# Altium footprint library footprints.PcbLib: 26 footprints (part 2 of 2)
Each footprint in its own frame and in the unit in brackets; x right, y up, seen from the top. Pads: shape width x height; smd on the part's side, far side on the other; paste and mask are expansions set on the pad; w line width, h text height; cw(c..) or ccw(c..) is an arc to the next point about the centre after c.
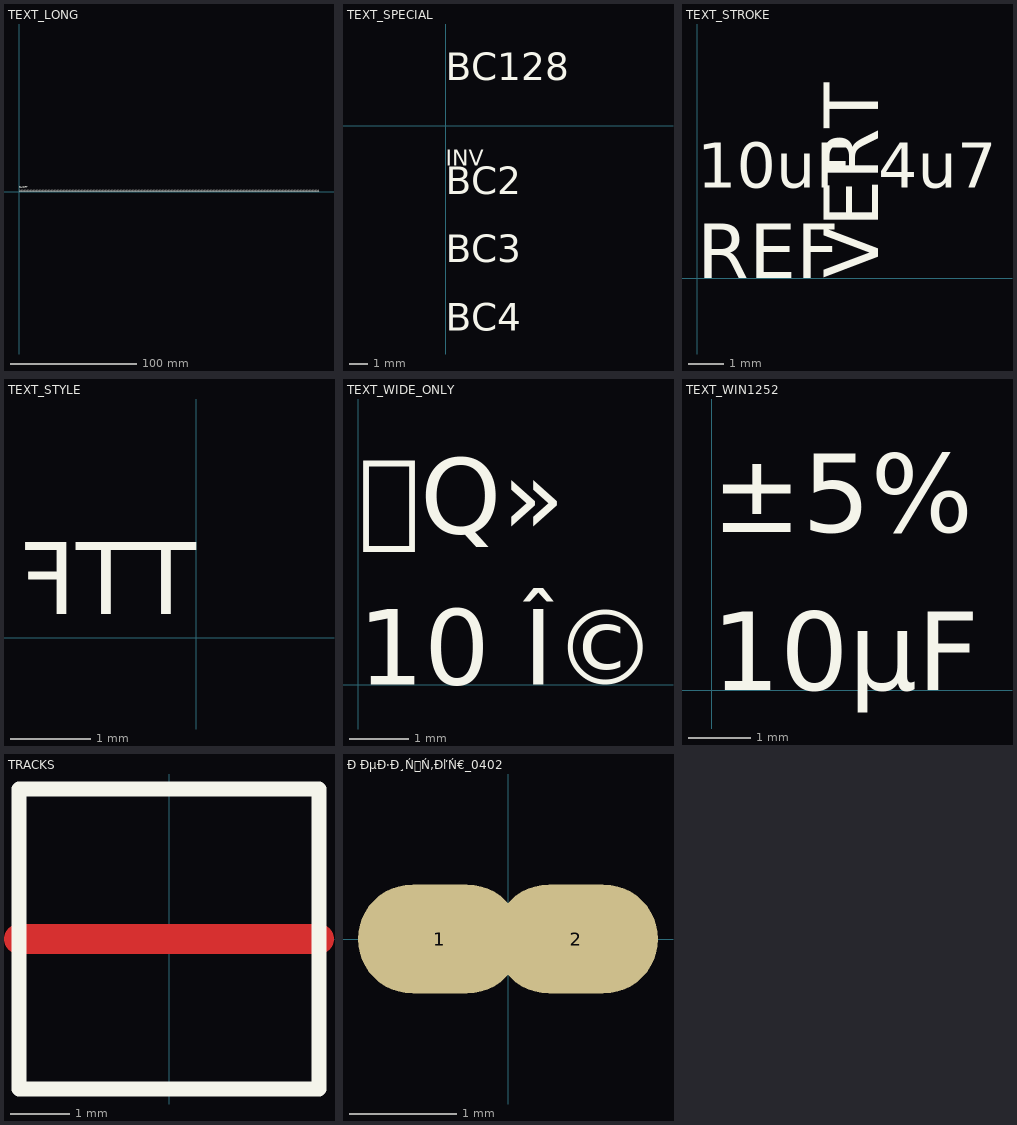
[diagram p1: the footprints below, top view; thin cyan lines are the x and y axes]

## STEP_REF [mil]
3D body "minimal.step": height 0, standoff 0, extent 0,0 0,0

## TEXT_LONG [mil]
Top Overlay:
  text "AAAAAAAAAAAAAAAAAAAAAAAAAAAAAAAAAAAAAAAAAAAAAAAAAAAAAAAAAAAAAAAAAAAAAAAAAAAAAAAAAAAAAAAAAAAAAAAAAAAAAAAAAAAAAAAAAAAAAAAAAAAAAAAAAAAAAAAAAAAAAAAAAAAAAAAAAAAAAAAAAAAAAAAAAAAAAAAAAAAAAAAAAAAAAAAAAAAAAAAAAAAAAAAAAAAAAAAAAAAAAAAAAAAAAAAAAAAAAAAAAAAAAAAAAAAAAAAAAAAA_END" at 0,0 h50
  text "SHORT" at 0,100 h50

## TEXT_SPECIAL [mil]
Top Overlay:
  text "BC128" at 0,100 h60
  text "BC2" at 0,-150 h60
  text "BC3" at 0,-300 h60
  text "BC4" at 0,-450 h60
  text "INV" at 0,-100 h60

## TEXT_STROKE [mil]
Top Overlay:
  text "REF" at 0,0 h60
  text "10uF" at 0,100 h50
  text "VERT" at 200,0 h60
  text "4u7" at 200,100 h50

## TEXT_STYLE [mil]
Top Overlay:
  text "TTF" at 0,0 h60

## TEXT_WIDE_ONLY [mil]
Top Overlay:
  text "10 Î©" at 0,0 h50
  text "Q»" at 0,100 h50

## TEXT_WIN1252 [mil]
Top Overlay:
  text "10µF" at 0,0 h50
  text "±5%" at 0,100 h50

## TRACKS [mil]
Top Layer:
  lines w20: -100,0 100,0
Top Overlay:
  lines w10: -100,-100 100,-100 100,100 -100,100 -100,-100

## VIAS [mil]
via 0,0 diameter 24 hole 12
via 80,0 diameter 40 hole 20

## Đ ĐµĐ·Đ¸ŃŃ‚ĐľŃ€_0402 [mil]
pads (2):
  oval 60x40 smd: 1(-25,0) 2(25,0)